# EAGLE library part 6861XX148922_686130148922 (library Wurth_Connectors_WR-FPC)
WR-FPC 1.00 mm SMT ZIF Horizontal - Bottom Contact - Hinge Type KIND PROPERTIES Pitch 1 mm MATERIAL PROPERTIES Insulator Material PA6T Contact Material Phosphor Bronze Contact Plating 120 (µ") Tin over 50 (µ") Nickel Contact Type Stamped Solder Tabs Brass <https://www.we-online.com/catalog/media/o58875v209%20Family_Con_FPC_ZIF_100_6861xx148922.jpg> Details see: https://www.we-online.com/catalog/en/FPC_1_00_SMT_ZIF_HORIZONTAL_BOTTOM_CONTACT_HINGE_TYPE_6861XX148922/ Updated by Ella Wu 2020-08-26 2020(C) Wurth Elektronik
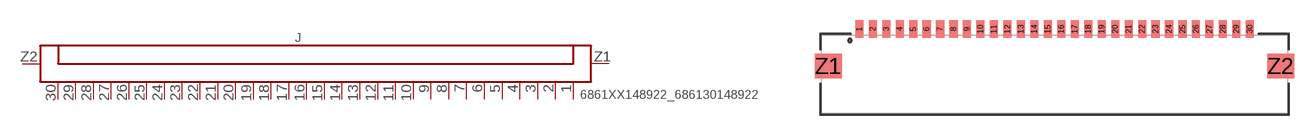
[diagram p200: symbol with the pads of 686130148922; footprint 686130148922]

Designator prefix J

## 6861XX148922_686130148922 (CONTACT-RESISTANCE: 50mOhm; DATASHEET-URL: https://www.we-online.com/catalog/datasheet/686130148922.pdf; IR: 1A; L: 34.6mm; MATE-WITH: WR-FFC 1.00 mm Flat Flexible Cable Type 1 (Contacts on same side)/ Type 2 (Contacts opposite); PACKAGING: Tape and Reel; PART-NUMBER: 686130148922; PINS: 30; PITCH: 1mm; TYPE: Horizontal; VALUE: 686130148922; WORKING-VOLTAGE: 100V(AC))  [686130148922]
1  1  pas
2  2  pas
3  3  pas
4  4  pas
5  5  pas
6  6  pas
7  7  pas
8  8  pas
9  9  pas
10  10  pas
11  11  pas
12  12  pas
13  13  pas
14  14  pas
15  15  pas
16  16  pas
17  17  pas
18  18  pas
19  19  pas
20  20  pas
21  21  pas
22  22  pas
23  23  pas
24  24  pas
25  25  pas
26  26  pas
27  27  pas
28  28  pas
29  29  pas
30  30  pas
Z1  Z1  pas
Z2  Z2  pas

## Footprint 686130148922 (pad centres in mm)
WR-FPC 1.00 mm SMT ZIF Horizontal - Bottom Contact - Hinge Type,30Pins
smd 0.6 x 1.3: 1 -14.5,3.35; 2 -13.5,3.35; 3 -12.5,3.35; 4 -11.5,3.35; 5 -10.5,3.35; 6 -9.5,3.35; 7 -8.5,3.35; 8 -7.5,3.35; 9 -6.5,3.35; 10 -5.5,3.35; 11 -4.5,3.35; 12 -3.5,3.35; 13 -2.5,3.35; 14 -1.5,3.35; 15 -0.5,3.35; 16 0.5,3.35; 17 1.5,3.35; 18 2.5,3.35; 19 3.5,3.35; 20 4.5,3.35; 21 5.5,3.35; 22 6.5,3.35; 23 7.5,3.35; 24 8.5,3.35; 25 9.5,3.35; 26 10.5,3.35; 27 11.5,3.35; 28 12.5,3.35; 29 13.5,3.35; 30 14.5,3.35
smd 2 x 1.8: Z1 -16.8,0.6; Z2 16.8,0.6